# Altium schematic symbol library NCP303.SchLib: 2 symbols
Pins are listed as number, name and electrical type; pins without a type are passive.

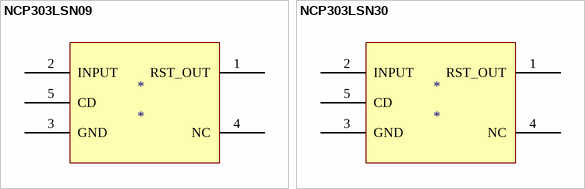
[diagram p0: symbols NCP303LSN09 to NCP303LSN30]

## NCP303LSN09
designator *
footprint SOT23-5AL (SOT23, 5-Leads, Body 2.9x1.6mm, Pitch 0.95mm, Lead Span 2.8mm, IPC High Density)
pins: 1 RST_OUT, 2 INPUT, 3 GND, 4 NC, 5 CD

## NCP303LSN30
designator *
footprint SOT23-5AL (SOT23, 5-Leads, Body 2.9x1.6mm, Pitch 0.95mm, Lead Span 2.8mm, IPC High Density)
pins: 1 RST_OUT, 2 INPUT, 3 GND, 4 NC, 5 CD